# EAGLE library part 61301021821 (library Wurth_Elektronik2)
WR-PHD 2.54mm Dual Socket Header, 10 Pins =>Code : Con_BTB_SHD_2.54_2_61301021821 <http://katalog.we-online.de/media/images/eican/Con_BTB_SHD_2.54_2_6130xx21821_pf2.jpg> Details see: http://katalog.we-online.de/en/em/613_0xx_218_21 Created 2014-05-29, Karrer Zheng 2014 (C) Würth Elektronik
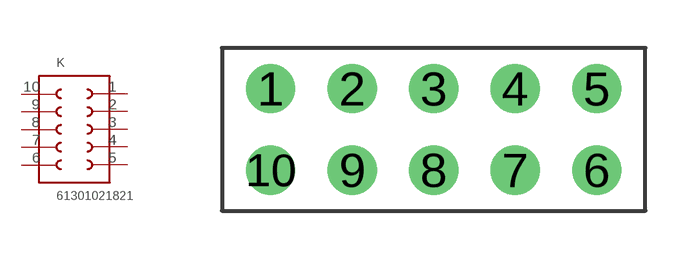
[diagram p111: symbol with the pads of 61301021821; footprint 61301021821]

Designator prefix K

## 61301021821  [61301021821]
1  1  pas
2  2  pas
3  3  pas
4  4  pas
5  5  pas
6  6  pas
7  7  pas
8  8  pas
9  9  pas
10  10  pas

## Footprint 61301021821 (pad centres in mm)
WR-PHD 2.54mm Dual Socket Header, 10 Pins
drill 1.02: 1 -5.08,1.27; 2 -2.54,1.27; 3 0,1.27; 4 2.54,1.27; 5 5.08,1.27; 6 5.08,-1.27; 7 2.54,-1.27; 8 0,-1.27; 9 -2.54,-1.27; 10 -5.08,-1.27